# EAGLE library part LED3X3 (library neofocal)
Neofocal: LED chip 3x3 QFN pkg
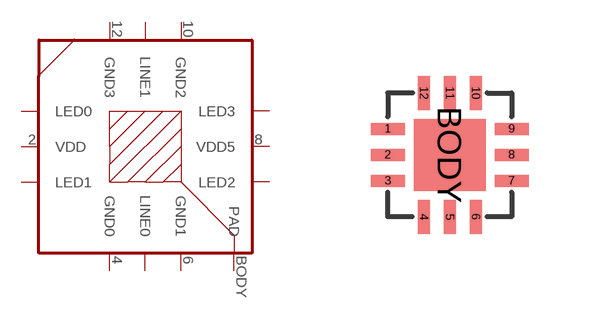
[diagram p2: symbol with the pads of 12QFN3X3; footprint 12QFN3X3]

Designator prefix U

## LED3X3 (DIGIKEY: DNO(inhouse); P1I: o)  [12QFN3X3]
1  LED0
2  VDD  pwr
3  LED1
4  GND0  pwr
5  LINE0
6  GND1  pwr
7  LED2
8  VDD5  pwr
9  LED3
10  GND2  pwr
11  LINE1
12  GND3  pwr
BODY  PAD  pwr

## Footprint 12QFN3X3 (pad centres in mm)
smd 0.85 x 0.3: 1 -1.55,0.65; 2 -1.55,0; 3 -1.55,-0.65; 7 1.55,-0.65; 8 1.55,0; 9 1.55,0.65
smd 0.3 x 0.85: 4 -0.65,-1.55; 5 0,-1.55; 6 0.65,-1.55; 10 0.65,1.55; 11 0,1.55; 12 -0.65,1.55
smd 1.8 x 1.8: BODY 0,0